# EAGLE library part L7986A (library TEWSBPPTLibrary)
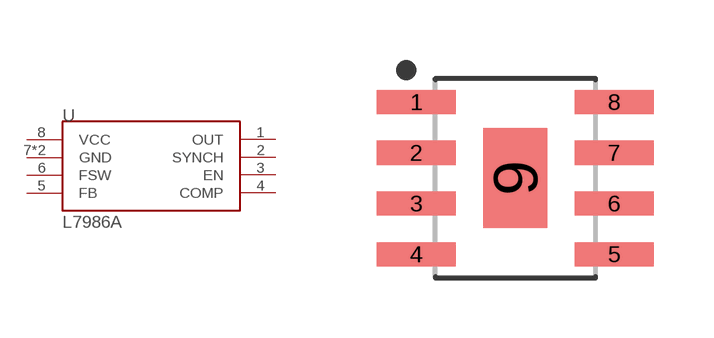
[diagram p5: symbol with the pads of SOIC127P600X170-9T160X250; footprint SOIC127P600X170-9T160X250]

Designator prefix -

## L7986A  [SOIC127P600X170-9T160X250]
1  OUT
2  SYNCH
3  EN
4  COMP
5  FB
6  FSW
7  GND
8  VCC
9  GND

## Footprint SOIC127P600X170-9T160X250 (pad centres in mm)
8-SOIC, 1.27 mm pitch, 6.00 mm span, 4.90 X 3.90 X 1.70 mm body, 2.50 X 1.60 mm thermal pad 8-pin SOIC package with 1.27 mm pitch, 6.00 mm span with body size 4.90 X 3.90 X 1.70 mm and thermal pad size 2.50 X 1.60 mm
smd 1.968 x 0.602: 1 -2.473,1.905; 2 -2.473,0.635; 3 -2.473,-0.635; 4 -2.473,-1.905; 5 2.473,-1.905; 6 2.473,-0.635; 7 2.473,0.635; 8 2.473,1.905
smd 1.6 x 2.5: 9 0,0